# Altium footprint library KILEX LIBRARY PCB.PcbLib: 35 footprints (part 2 of 3)
Each footprint in its own frame and in the unit in brackets; x right, y up, seen from the top. Pads: shape width x height; smd on the part's side, far side on the other; paste and mask are expansions set on the pad; w line width, h text height; cw(c..) or ccw(c..) is an arc to the next point about the centre after c.
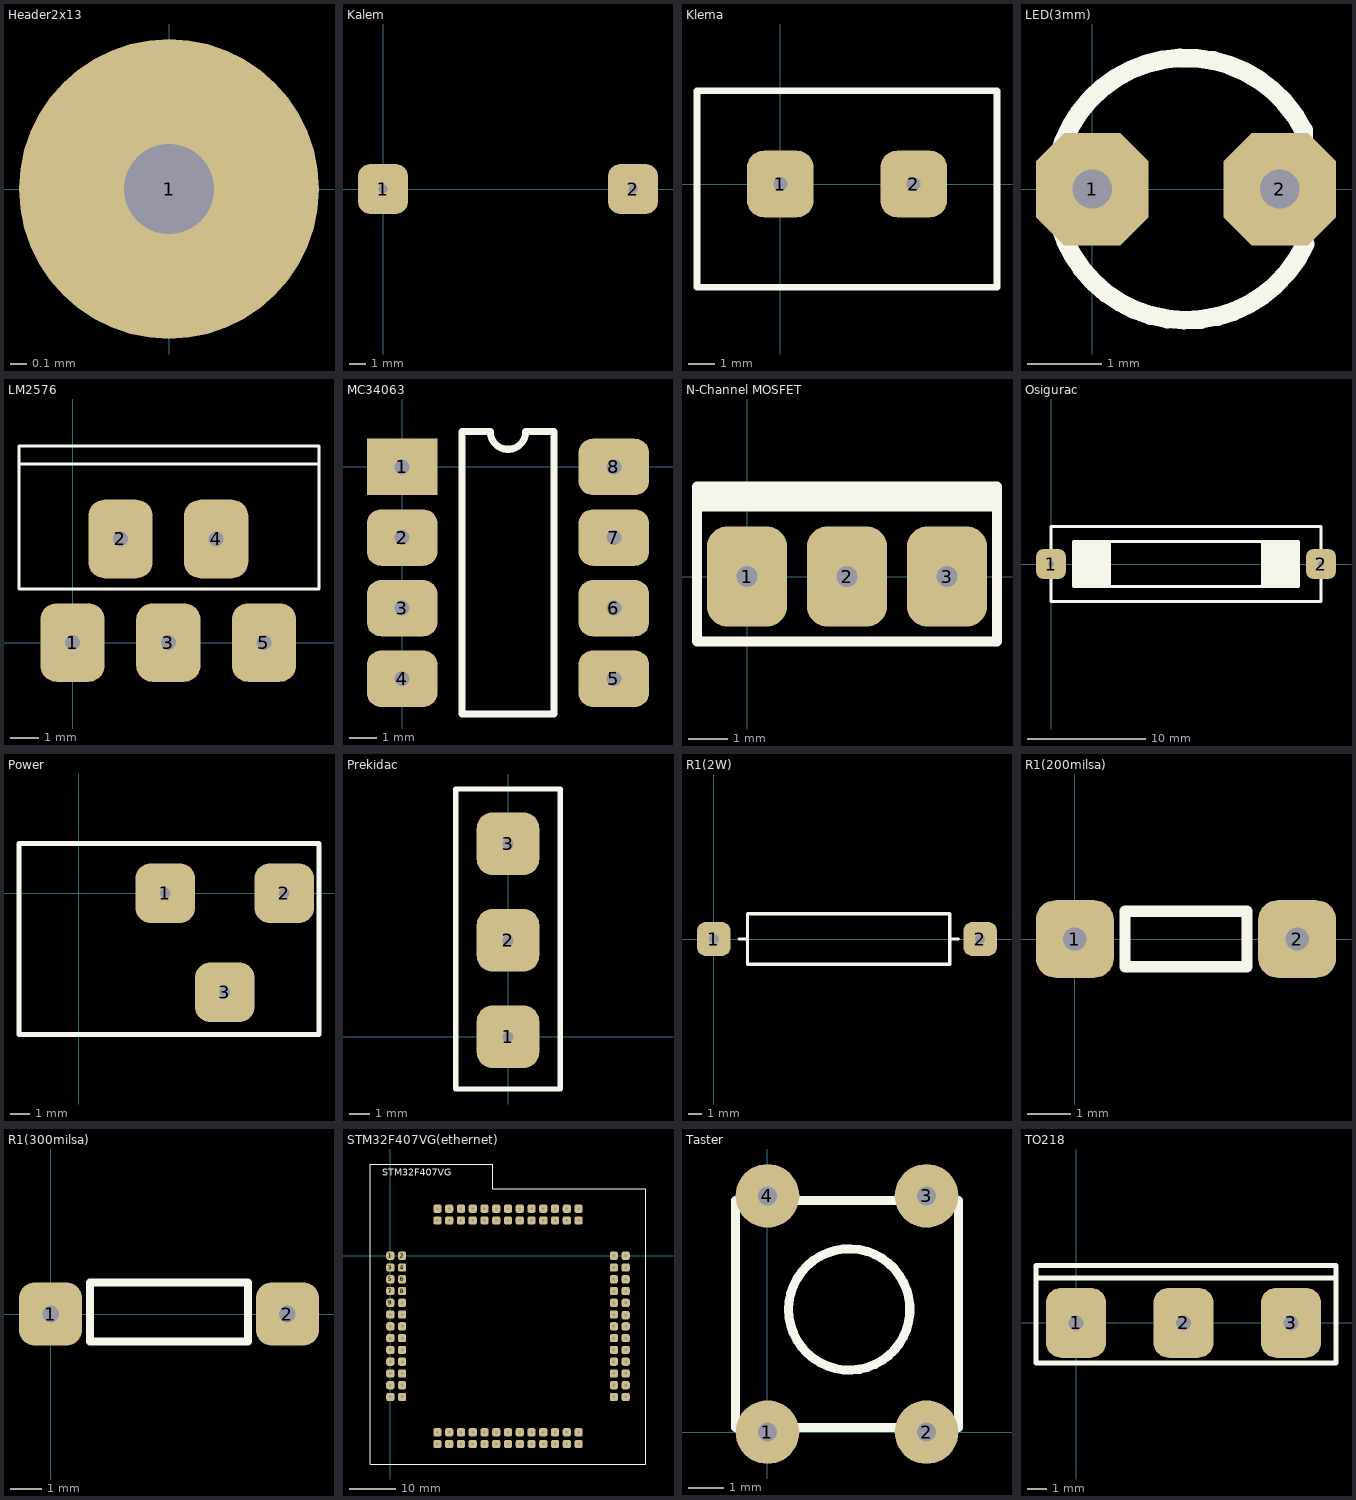
[diagram p1: the footprints below, top view; thin cyan lines are the x and y axes]

## Header2x13 [mil]
pads (1):
  round 70 hole 21: 1(0,0)

## Kalem [mil]
pads (2):
  rrect50% 120x120 hole 21: 1(0,0) 2(600,0)
3D body: height 1273.65, standoff -258.58, extent -72.9,-567.36 679.58,577.35

## Klema [mil]
pads (2):
  rrect50% 100x100 hole 21: 1(0,0) 2(200,0)
Top Overlay:
  lines w10: -125,-155 -125,140 325,140 325,-155 -125,-155
3D body: height 391.73, standoff -133.86, extent -122.24,-155 325,140.28

## LED(3mm) [mil]
pads (2):
  oct 60x60 hole 21: 1(0,0) 2(100,0)
Top Overlay:
  lines w10: 112.61,-28.39 112.61,31.3 ccw(c50,0) 113.56,-29.33 112.61,-28.39
3D body: height 212, standoff -125, extent -28.43,-60 128.43,77.5

## LM2576 [mil]
pads (5):
  rrect50% 90x110 hole 21: 1(0,0) 2(67,145) 3(134,0) 4(201,145) 5(268,0)
Top Overlay:
  lines w3.94: -75,250 -75,275 345,275 345,250 ; -75,250 -75,75 345,75 345,250 ; -75,250 -50,250 325,250 345,250
3D body: height 850, standoff -94.49, extent -65,-9.91 335,314.5

## MC34063 [mil]
pads (8):
  rect 100x80 hole 21: 1(0,0)
  rrect50% 100x80 hole 21: 2(0,-100) 3(0,-200) 4(0,-300) 5(300,-300) 6(300,-200) 7(300,-100) 8(300,0)
Top Overlay:
  lines w10: 85,-350 215,-350 215,50 175,50 cw(c150,50) 125,50 85,50 85,-350

## N-Channel MOSFET [mil]
pads (3):
  rrect50% 80x100 hole 21: 1(0,0) 2(100,0) 3(200,0)
Top Overlay:
  lines w10: -50,70 250,70 ; -50,80 250,80 ; -50,-65 -50,90 250,90 250,-65 -50,-65

## Osigurac [mil]
pads (2):
  rrect50% 100x100 hole 21: 1(0,0) 2(900,0)
Top Overlay:
  rectangle: 700,-75 825,75
  rectangle: 75,-75 200,75
  lines w10: 0,-125 900,-125 900,125 0,125 0,-125 ; 75,-75 825,-75 825,75 75,75 75,-75
3D body: height 491.77, standoff -250.2, extent 0,-177.17 911.81,177.16

## Power [mil]
pads (3):
  rrect50% 120x120 hole 21: 1(175,0) 2(415,0) 3(295,-200)
Top Overlay:
  lines w10: -120,-285 -120,100 415,100 485,100 485,-285 -120,-285

## Prekidac [mil]
pads (3):
  rrect50% 120x120 hole 21: 1(0,0) 2(0,185) 3(0,370)
Top Overlay:
  lines w10: -100,-100 100,-100 100,475 -100,475 -100,-100

## R1(2W) [mil]
pads (2):
  rrect50% 100x100 hole 30: 1(0,0) 2(790,0)
Top Overlay:
  lines w10: 75,0 100,0 ; 700,0 725,0 ; 100,-75 100,75 700,75 700,-75 100,-75
3D body: height 208.27, standoff -401.97, extent -20.74,-108.27 810.75,108.27

## R1(200milsa) [mil]
pads (2):
  rrect50% 70x70 hole 21: 1(0,0) 2(200,0)
Top Overlay:
  lines w10: 45,-25 45,25 155,25 155,-25 45,-25

## R1(300milsa) [mil]
pads (2):
  rrect50% 80x80 hole 21: 1(0,0) 2(300,0)
Top Overlay:
  lines w10: 50,-35 250,-35 250,40 50,40 50,-35
3D body: height 95, standoff -78.74, extent -11.81,-49.49 311.81,45

## STM32F407VG(ethernet) [mil]
pads (104):
  rrect50% 70x70 hole 21: 1(0,0) 2(100,0) 3(0,-100) 4(100,-100) 5(0,-200) 6(100,-200) 7(0,-300) 8(100,-300) 9(0,-400) 10(100,-400) 11(0,-500) 12(100,-500) 13(0,-600) 14(100,-600) 15(0,-700) 16(100,-700) 17(0,-800) 18(100,-800) 19(0,-900) 20(100,-900) 21(0,-1000) 22(100,-1000) 23(0,-1100) 24(100,-1100) 25(0,-1200) 26(100,-1200) 27(400,-1600) 28(400,-1500) 29(500,-1600) 30(500,-1500) 31(600,-1600) 32(600,-1500) 33(700,-1600) 34(700,-1500) 35(800,-1600) 36(800,-1500) 37(900,-1600) 38(900,-1500) 39(1000,-1600) 40(1000,-1500) 41(1100,-1600) 42(1100,-1500) 43(1200,-1600) 44(1200,-1500) 45(1300,-1600) 46(1300,-1500) 47(1400,-1600) 48(1400,-1500) 49(1500,-1600) 50(1500,-1500) 51(1600,-1600) 52(1600,-1500) 53(2000,-1200) 54(1900,-1200) 55(2000,-1100) 56(1900,-1100) 57(2000,-1000) 58(1900,-1000) 59(2000,-900) 60(1900,-900) 61(2000,-800) 62(1900,-800) 63(2000,-700) 64(1900,-700) 65(2000,-600) 66(1900,-600) 67(2000,-505) 68(1900,-500) 69(2000,-400) 70(1900,-400) 71(2000,-300) 72(1900,-300) 73(2000,-200) 74(1900,-200) 75(2000,-100) 76(1900,-100) 77(2000,0) 78(1900,0) 79(1600,400) 80(1600,300) 81(1500,400) 82(1500,300) 83(1400,400) 84(1400,300) 85(1300,400) 86(1300,300) 87(1200,400) 88(1200,300) 89(1100,400) 90(1100,300) 91(1000,400) 92(1000,300) 93(900,400) 94(900,300) 95(800,400) 96(800,300) 97(700,400) 98(700,300) 99(600,400) 100(600,300) 101(500,400) 102(500,300) 103(400,400) 104(400,300)
Top Overlay:
  lines w10: -170,-1770 2170,-1770 2170,570 870,570 870,780 -170,780 -170,-1770
  text "STM32F407VG" at -70,660 h100

## Taster [mil]
pads (4):
  round 70 hole 21: 1(0,0) 2(175,0) 3(175,260) 4(0,260)
Top Overlay:
  lines w10: 156.56,139.44 cw(c90,135) 156.54,139.75 ; -35,5 -35,255 210,255 210,5 -35,5

## TO218 [mil]
pads (3):
  rrect50% 120x140 hole 30: 1(0,0) 2(215,0) 3(430,0)
Top Overlay:
  lines w10: -80,90 520,90 ; -80,-80 -80,115 520,115 520,-80 -80,-80
3D body: height 959.92, standoff -411.17, extent -79.21,-80 519.21,112.91